# EAGLE library part AT26DF081A-SU (library memoris)
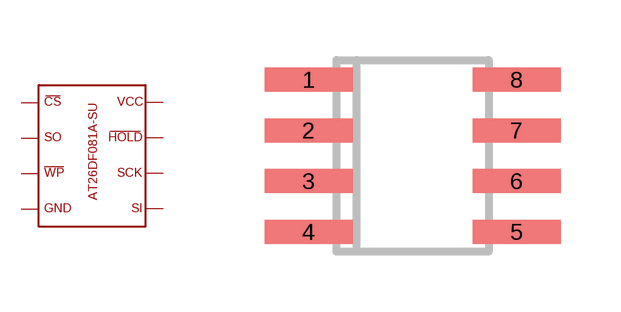
[diagram p0: symbol with the pads of SO08; footprint SO08]

Designator prefix -

## AT26DF081A-SU  [SO08]
1  1
2  2
3  3
4  4
5  5
6  6
7  7
8  8

## Footprint SO08 (pad centres in mm)
SMALL OUTLINE INTEGRATED CIRCUIT body 3.9 mm/JEDEC MS-012AA
smd 2.2 x 0.6: 1 -2.6,1.905; 2 -2.6,0.635; 3 -2.6,-0.635; 4 -2.6,-1.905; 5 2.6,-1.905; 6 2.6,-0.635; 7 2.6,0.635; 8 2.6,1.905